# EAGLE library part PINHD-2X19 (library smd_pinhead)
PIN HEADER
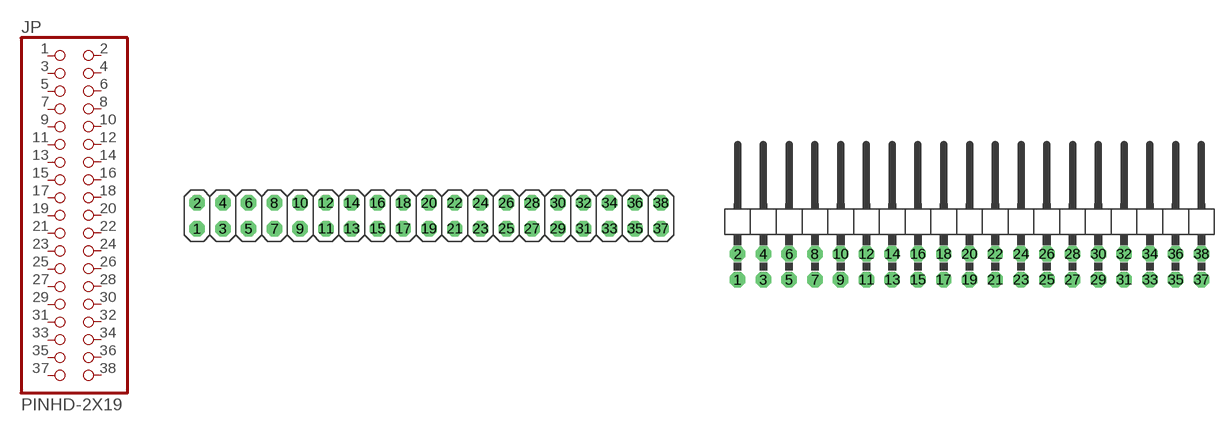
[diagram p40: symbol with the pads of 2X19; footprints 2X19, 2X19/90]

Designator prefix JP

## PINHD-2X19  [2X19]
1  1  pas
2  2  pas
3  3  pas
4  4  pas
5  5  pas
6  6  pas
7  7  pas
8  8  pas
9  9  pas
10  10  pas
11  11  pas
12  12  pas
13  13  pas
14  14  pas
15  15  pas
16  16  pas
17  17  pas
18  18  pas
19  19  pas
20  20  pas
21  21  pas
22  22  pas
23  23  pas
24  24  pas
25  25  pas
26  26  pas
27  27  pas
28  28  pas
29  29  pas
30  30  pas
31  31  pas
32  32  pas
33  33  pas
34  34  pas
35  35  pas
36  36  pas
37  37  pas
38  38  pas

## PINHD-2X19/90  [2X19/90]
Pads as for 2X19

## Footprint 2X19 (pad centres in mm)
PIN HEADER
drill 1.016 octagon: 1 -22.86,-1.27; 2 -22.86,1.27; 3 -20.32,-1.27; 4 -20.32,1.27; 5 -17.78,-1.27; 6 -17.78,1.27; 7 -15.24,-1.27; 8 -15.24,1.27; 9 -12.7,-1.27; 10 -12.7,1.27; 11 -10.16,-1.27; 12 -10.16,1.27; 13 -7.62,-1.27; 14 -7.62,1.27; 15 -5.08,-1.27; 16 -5.08,1.27; 17 -2.54,-1.27; 18 -2.54,1.27; 19 0,-1.27; 20 0,1.27; 21 2.54,-1.27; 22 2.54,1.27; 23 5.08,-1.27; 24 5.08,1.27; 25 7.62,-1.27; 26 7.62,1.27; 27 10.16,-1.27; 28 10.16,1.27; 29 12.7,-1.27; 30 12.7,1.27; 31 15.24,-1.27; 32 15.24,1.27; 33 17.78,-1.27; 34 17.78,1.27; 35 20.32,-1.27; 36 20.32,1.27; 37 22.86,-1.27; 38 22.86,1.27

## Footprint 2X19/90 (pad centres in mm)
PIN HEADER
drill 1.016 octagon: 1 -22.86,-6.35; 2 -22.86,-3.81; 3 -20.32,-6.35; 4 -20.32,-3.81; 5 -17.78,-6.35; 6 -17.78,-3.81; 7 -15.24,-6.35; 8 -15.24,-3.81; 9 -12.7,-6.35; 10 -12.7,-3.81; 11 -10.16,-6.35; 12 -10.16,-3.81; 13 -7.62,-6.35; 14 -7.62,-3.81; 15 -5.08,-6.35; 16 -5.08,-3.81; 17 -2.54,-6.35; 18 -2.54,-3.81; 19 0,-6.35; 20 0,-3.81; 21 2.54,-6.35; 22 2.54,-3.81; 23 5.08,-6.35; 24 5.08,-3.81; 25 7.62,-6.35; 26 7.62,-3.81; 27 10.16,-6.35; 28 10.16,-3.81; 29 12.7,-6.35; 30 12.7,-3.81; 31 15.24,-6.35; 32 15.24,-3.81; 33 17.78,-6.35; 34 17.78,-3.81; 35 20.32,-6.35; 36 20.32,-3.81; 37 22.86,-6.35; 38 22.86,-3.81